# Altium footprint library Microschemes.PcbLib: 9 footprints
Each footprint in its own frame and in the unit in brackets; x right, y up, seen from the top. Pads: shape width x height; smd on the part's side, far side on the other; paste and mask are expansions set on the pad; w line width, h text height; cw(c..) or ccw(c..) is an arc to the next point about the centre after c.
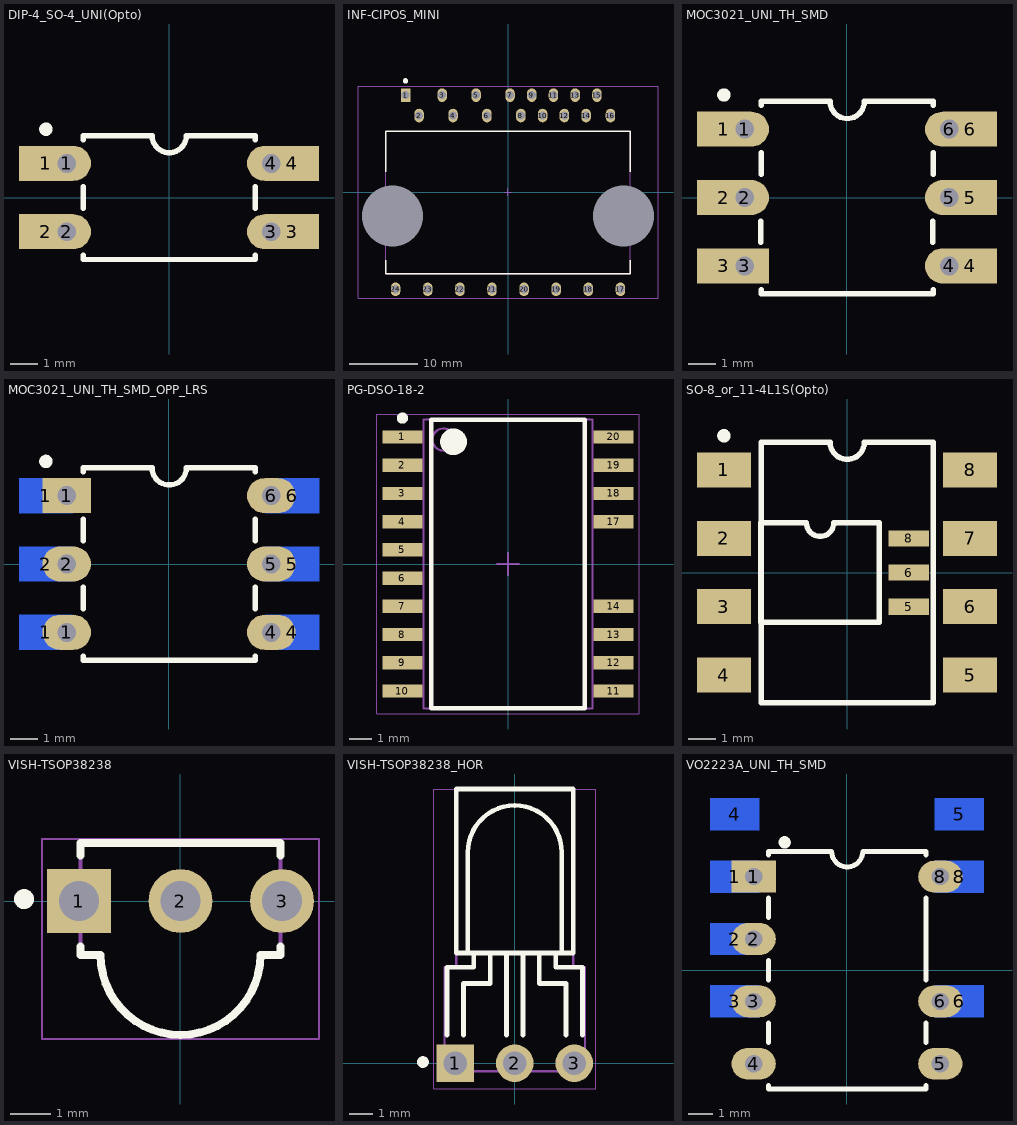
[diagram p0: the footprints below, top view; thin cyan lines are the x and y axes]

## DIP-4_SO-4_UNI(Opto) [mm]
pads (8):
  rect 2x1.3 smd: 1(-4.572,1.27) 2(-4.572,-1.27) 3(4.572,-1.27) 4(4.572,1.27)
  oval 1.8x1.3 hole 0.7: 1(-3.8,1.27) 2(-3.8,-1.27) 3(3.8,-1.27) 4(3.8,1.27)
Top Overlay:
  circle w0.25: c-4.572,2.54 r0.125
  lines w0.2: -3.19,-2.15 -3.19,-2.3 3.21,-2.3 3.21,-2.15 ; -3.19,-0.4 -3.19,0.4 ; -3.19,2.15 -3.19,2.3 -0.627,2.3 ccw(c0.008,2.3) 0.643,2.3 3.21,2.3 3.21,2.15 ; 3.21,-0.4 3.21,0.4
3D body "DIP4.STEP": height 3.75, standoff -2.55, extent -3.849,-2.271 4.021,2.322

## INF-CIPOS_MINI [mm] "CIPOS MINI;24 pin, 21mm W X 36mm L X 5.6mm H body"
height 5.6
pads (26):
  rect 1.4x2 hole 1.2 paste+0 mask+0: 1(-15.1,14.3)
  oval 1.4x2 hole 1.2 paste+0 mask+0: 2(-13.1,11.3) 3(-9.7,14.3) 4(-8.1,11.3) 5(-4.7,14.3) 6(-3.1,11.3) 7(0.3,14.3) 8(1.9,11.3) 9(3.5,14.3) 10(5.1,11.3) 11(6.7,14.3) 12(8.3,11.3) 13(9.9,14.3) 14(11.5,11.3) 15(13.1,14.3) 16(15.1,11.3) 17(16.555,-14.3) 18(11.825,-14.3) 19(7.095,-14.3) 20(2.365,-14.3) 21(-2.365,-14.3) 22(-7.095,-14.3) 23(-11.825,-14.3) 24(-16.555,-14.3)
  round 0 hole 9 unplated paste+0 mask+0: ""(-17.025,-3.5) ""(17.025,-3.5)
Top Overlay:
  circle w0.4: c-15.1,16.4 r0.2
  lines w0.2: -18,-10 -18,-12 18,-12 18,-10 ; -18,3 -18,9 18,9 18,3
Mechanical 3:
  text ".DESIGNATOR" at 0,0 h1.2
Mechanical 13:
  lines w0.1: -18,-12 18,-12 18,9 -18,9 -18,-12
Mechanical 15:
  lines w0.1: -0.5,0 0.5,0 ; 0,-0.5 0,0.5 ; -22.1,-15.65 -22.1,15.65 22.1,15.65 22.1,-15.65 -22.1,-15.65
3D body "MDIP-24-X1.stp": height 5.61, standoff -4.25, extent -18,-14.56 18,14.56

## MOC3021_UNI_TH_SMD [mm]
height 4.38
pads (12):
  rect 2x1.3 smd: 1(-4.572,2.54) 2(-4.572,0) 3(-4.572,-2.54) 4(4.572,-2.54) 5(4.572,0) 6(4.572,2.54)
  oval 1.8x1.3 hole 0.7: 1(-3.8,2.54) 2(-3.8,0) 4(3.8,-2.54) 5(3.8,0) 6(3.8,2.54)
  rect 1.8x1.3 hole 0.7: 3(-3.8,-2.54)
Top Overlay:
  circle w0.25: c-4.572,3.81 r0.125
  lines w0.2: -3.21,-1.67 -3.21,-0.87 ; -3.19,-3.42 -3.19,-3.57 3.21,-3.57 3.21,-3.42 ; -3.19,0.87 -3.19,1.67 ; -3.19,3.42 -3.19,3.57 -0.627,3.57 ccw(c0.008,3.57) 0.643,3.57 3.21,3.57 3.21,3.42 ; 3.19,-1.67 3.19,-0.87 ; 3.21,0.87 3.21,1.67
3D body "DIP-6.STEP": height 4.5, standoff -2.8, extent -3.925,-3.595 3.945,3.525

## MOC3021_UNI_TH_SMD_OPP_LRS [mm]
height 4.38
pads (12):
  rect 2x1.3 smd far side: 1(-4.572,-2.54) 1(-4.572,2.54) 2(-4.572,0) 4(4.572,-2.54) 5(4.572,0) 6(4.572,2.54)
  oval 1.8x1.3 hole 0.7: 1(-3.8,-2.54) 2(-3.8,0) 4(3.8,-2.54) 5(3.8,0) 6(3.8,2.54)
  rect 1.8x1.3 hole 0.7: 1(-3.8,2.54)
Top Overlay:
  circle w0.25: c-4.572,3.81 r0.125
  lines w0.2: -3.19,-3.42 -3.19,-3.57 3.21,-3.57 3.21,-3.42 ; -3.19,-1.67 -3.19,-0.87 ; -3.19,0.87 -3.19,1.67 ; -3.19,3.42 -3.19,3.57 -0.627,3.57 ccw(c0.008,3.57) 0.643,3.57 3.21,3.57 3.21,3.42 ; 3.21,-1.67 3.21,-0.87 ; 3.21,0.87 3.21,1.67
Bottom Overlay:
  circle w0.25: c-4.572,-3.81 r0.125
  lines w0.2: -3.19,-3.42 -3.19,-3.57 -0.627,-3.57 cw(c0.008,-3.57) 0.643,-3.57 3.21,-3.57 3.21,-3.42 ; -3.19,-1.67 -3.19,-0.87 ; -3.19,0.87 -3.19,1.67 ; -3.19,3.42 -3.19,3.57 3.21,3.57 3.21,3.42 ; 3.21,-1.67 3.21,-0.87 ; 3.21,0.87 3.21,1.67
3D body "LTV-817S.STEP": height 3.88, standoff 0.01, extent -5.073,-3.56 5.073,1.02
3D body "LTV-817S.STEP": height 3.88, standoff 0.01, extent -5.073,-1.02 5.073,3.56
3D body "DIP-6.STEP": height 4.5, standoff -2.8, extent -3.925,-3.595 3.945,3.525

## PG-DSO-18-2 [mm] "SOP, 20-Leads, Body 12,80x7,50mm, Pitch 1,27mm, IPC Medium Density"
height 2.65
pads (18):
  rect 1.8x0.6 smd: 1(-4.75,5.715) 2(-4.75,4.445) 3(-4.75,3.175) 4(-4.75,1.905) 5(-4.75,0.635) 6(-4.75,-0.635) 7(-4.75,-1.905) 8(-4.75,-3.175) 9(-4.75,-4.445) 10(-4.75,-5.715) 11(4.75,-5.715) 12(4.75,-4.445) 13(4.75,-3.175) 14(4.75,-1.905) 17(4.75,1.905) 18(4.75,3.175) 19(4.75,4.445) 20(4.75,5.715)
Top Overlay:
  circle w0.6: c-2.45,5.5 r0.3
  circle w0.25: c-4.75,6.565 r0.125
  lines w0.2: -3.45,-6.5 3.45,-6.5 3.45,6.5 -3.45,6.5 -3.45,-6.5
Mechanical 13:
  circle w0.1: c-2.9,5.6 r0.5
  lines w0.1: -3.8,-6.5 3.8,-6.5 3.8,6.5 -3.8,6.5 -3.8,-6.5
Mechanical 15:
  lines w0.05: -5.9,-6.75 5.9,-6.75 5.9,6.75 -5.9,6.75 -5.9,-6.75
  lines w0.1: -0.5,0 0.5,0 ; 0,-0.5 0,0.5
3D body: height 2.65, standoff 0.1, extent -3.8,-6.5 3.8,6.5

## SO-8_or_11-4L1S(Opto) [mm]
pads (11):
  rect 2x1.3 smd: 1(-4.572,3.81) 2(-4.572,1.27) 3(-4.572,-1.27) 4(-4.572,-3.81) 5(4.572,-3.81) 6(4.572,-1.27) 7(4.572,1.27) 8(4.572,3.81)
  rect 1.5x0.6 smd: 5(2.3,-1.27) 6(2.3,0) 8(2.3,1.27)
Top Overlay:
  circle w0.25: c-4.572,5.08 r0.125
  lines w0.2: 1.2,1.815 1.2,-1.85 -3.2,-1.85 -3.2,1.85 -1.508,1.85 ccw(c-1,1.85) -0.492,1.85 1.2,1.85 ; -3.19,-4.84 -3.19,4.84 -0.627,4.84 ccw(c0.008,4.84) 0.643,4.84 3.21,4.84 3.21,-4.84 -3.19,-4.84
3D body "LTV-817S.STEP": height 3.88, standoff 0.01, extent -5.073,0.25 5.073,4.83
3D body "LTV-817S.STEP": height 3.88, standoff 0.01, extent -5.073,-2.29 5.073,2.29
3D body "LTV-817S.STEP": height 3.88, standoff 0.01, extent -5.073,-4.83 5.073,-0.25
3D body "TLP2361.step": height 2.2, standoff 0, extent -4.514,-1.9 2.514,1.9

## VISH-TSOP38238 [mm] "TH, 3-Leads, Body 5.00x4.80mm, Pitch 2.54mm"
height 8.55
pads (3):
  rect 1.6x1.6 hole 1: 1(-2.54,0)
  round 1.6 hole 1: 2(0,0) 3(2.54,0)
Top Overlay:
  circle w0.25: c-3.915,0.05 r0.125
  lines w0.2: -2.5,-1.35 -2.5,-1.143 ; -2.5,1.143 -2.5,1.45 2.5,1.45 2.5,1.143 ; -2.5,-1.35 -2,-1.35 ccw(c0,-1.35) 2,-1.35 2.5,-1.35 2.5,-1.143
Mechanical 13:
  lines w0.1: -2.5,-1.35 -2,-1.35 ccw(c0,-1.35) 2,-1.35 2.5,-1.35 2.5,1.45 -2.5,1.45 -2.5,-1.35
Mechanical 15:
  lines w0.05: -3.465,-3.45 3.465,-3.45 3.465,1.55 -3.465,1.55 -3.465,-3.45
  lines w0.1: -0.5,0.05 0.5,0.05 ; 0,-0.45 0,0.55
3D body "IR Receiver1.STEP": height 27, standoff -2.65, extent -2.89,-3.35 2.89,1.45

## VISH-TSOP38238_HOR [mm] "TH, 3-Leads, Body 5.00x4.80mm, Pitch 2.54mm"
height 4.8
pads (3):
  rect 1.6x1.6 hole 1: 1(-2.54,0)
  round 1.6 hole 1: 2(0,0) 3(2.54,0)
Top Overlay:
  circle w0.25: c-3.915,0.05 r0.125
  lines w0.2: -2.89,1.2 -2.89,4.1 -1.75,4.1 -1.75,4.7 ; -2.19,1.2 -2.19,3.4 -1.05,3.4 -1.05,4.7 ; -2,4.699 -2,9 cw(c0,9) 2,9 2,4.699 ; -0.35,1.2 -0.35,4.7 ; 0.35,1.2 0.35,4.7 ; 1.05,4.7 1.05,3.4 2.19,3.4 2.19,1.2 ; 1.75,4.7 1.75,4.1 2.89,4.1 2.89,1.2 ; -2.5,4.7 -2.5,11.7 2.5,11.7 2.5,4.7 -2.5,4.7
Mechanical 13:
  lines w0.1: -2.5,11.668 2.5,11.668 ; -2.5,11.684 -2.5,4.1 -3,4.1 -3,-0.35 3,-0.35 3,4.1 2.5,4.1 2.5,11.684
Mechanical 15:
  lines w0.05: -3.465,-1.1 -3.465,11.7 3.465,11.7 3.465,-1.1 -3.465,-1.1
  lines w0.1: -0.5,0.05 0.5,0.05 ; 0,-0.45 0,0.55
3D body "IR Receiver4.STEP": height 1.9, standoff -3, extent -2.89,-0.353 2.89,3.35
3D body "IR Receiver2.STEP": height 4.8, standoff 0, extent -2.89,1.347 2.89,11.65

## VO2223A_UNI_TH_SMD [mm]
height 4.38
pads (14):
  rect 2x1.3 smd far side: 1(-4.572,3.81) 2(-4.572,1.27) 3(-4.572,-1.27) 4(-4.572,6.35) 5(4.572,6.35) 6(4.572,-1.27) 8(4.572,3.81)
  rect 1.8x1.3 hole 0.7: 1(-3.8,3.81)
  oval 1.8x1.3 hole 0.7: 2(-3.8,1.27) 3(-3.8,-1.27) 4(-3.8,-3.81) 5(3.8,-3.81) 6(3.8,-1.27) 8(3.8,3.81)
Top Overlay:
  circle w0.25: c-2.54,5.207 r0.125
  lines w0.2: -3.19,-4.69 -3.19,-4.84 3.21,-4.84 3.21,-4.69 ; -3.19,-2.94 -3.19,-2.14 ; -3.19,-0.4 -3.19,0.4 ; -3.19,2.14 -3.19,2.94 ; -3.19,4.69 -3.19,4.84 -0.627,4.84 ccw(c0.008,4.84) 0.643,4.84 3.21,4.84 3.21,4.69 ; 3.21,-2.94 3.21,-2.14 ; 3.21,-0.4 3.21,2.94
Bottom Overlay:
  circle w0.25: c-4.572,-2.54 r0.125
  lines w0.2: -3.19,-2.3 -0.627,-2.3 cw(c0.008,-2.3) 0.643,-2.3 3.21,-2.3 ; -3.19,-2.29 -3.19,-2.14 ; -3.19,-0.4 -3.19,0.4 ; -3.19,2.14 -3.19,2.94 ; -3.19,4.68 -3.19,7.38 3.21,7.38 3.21,4.68 ; 3.21,-2.29 3.21,-2.14 ; 3.21,-0.4 3.21,2.94
3D body "LTV-817S.STEP": height 3.88, standoff 0.01, extent -5.073,-2.29 5.073,2.29
3D body "LTV-817S.STEP": height 3.88, standoff 0.01, extent -5.073,0.25 5.073,4.83
3D body "LTV-817S.STEP": height 3.88, standoff 0.01, extent -5.073,2.79 5.073,7.37
3D body "DIP-6.STEP": height 4.5, standoff -2.8, extent -3.925,-2.325 3.945,4.795
3D body "DIP-6.STEP": height 4.5, standoff -2.8, extent -3.925,-4.865 3.945,2.255